# Altium footprint library Potentiometer_THT.PcbLib: 112 footprints (part 5 of 7)
Each footprint in its own frame and in the unit in brackets; x right, y up, seen from the top. Pads: shape width x height; smd on the part's side, far side on the other; paste and mask are expansions set on the pad; w line width, h text height; cw(c..) or ccw(c..) is an arc to the next point about the centre after c.
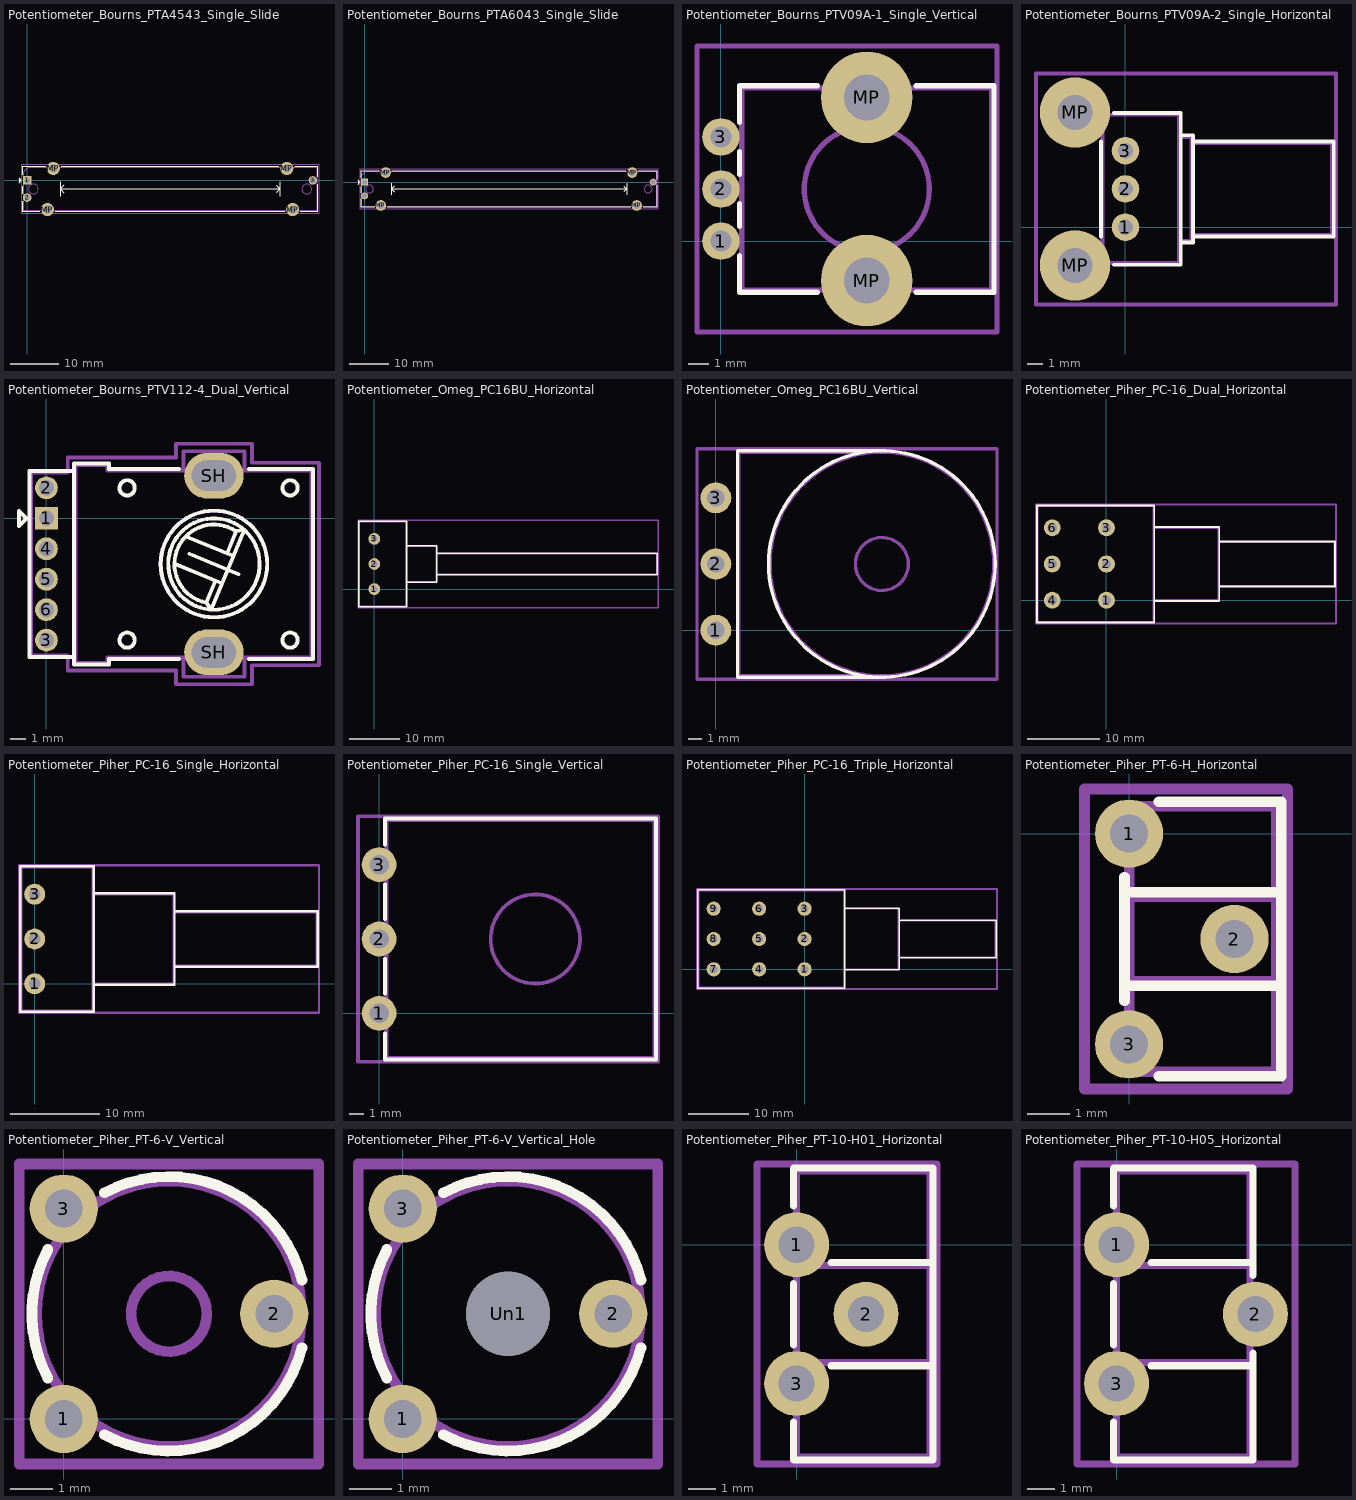
[diagram p4: the footprints below, top view; thin cyan lines are the x and y axes]

## Potentiometer_Bourns_PTA4543_Single_Slide [mm]
pads (7):
  rect 1.75x1.75 hole 1.2: 1(0,0)
  round 1.75 hole 1.2: 2(0,-3.5) 3(58.5,0)
  round 2.7 hole 1.7: MP(4.15,-5.95) MP(5.35,2.45) MP(53.15,2.45) MP(54.35,-5.95)
F.SilkS:
  lines w0.254: -0.87,-4.29 -0.87,-6.37 2.554,-6.37 ; -0.87,-2.71 -0.87,-1.175 ; -0.87,1.175 -0.87,2.87 3.754,2.87 ; 5.746,-6.37 52.754,-6.37 ; 6.75,-3.25 6.75,-0.25 ; 6.946,2.87 51.554,2.87 ; 7.5,-2.5 6.75,-1.75 ; 7.5,-1 6.75,-1.75 ; 51,-2.5 51.75,-1.75 ; 51,-1 51.75,-1.75 ; 51.75,-3.25 51.75,-0.25 ; 54.746,2.87 59.37,2.87 59.37,0.79 ; 55.946,-6.37 59.37,-6.37 59.37,-0.79 ; 6.75,-1.75 51.75,-1.75 ; -1.675,-0.5 -1.675,0.5 -1.175,0 -1.675,-0.5
F.Fab:
  circle w0.254: c1.25,-1.75 r1
  circle w0.254: c57.25,-1.75 r1
  lines w0.254: -0.75,-6.25 -0.75,1.75 0.25,2.75 59.25,2.75 59.25,-6.25 -0.75,-6.25
  text "'.Designator'" at 25.203,-2.59 h1
F.CrtYd:
  lines w0.254: -1.25,-6.75 -1.25,3.25 59.75,3.25 59.75,-6.75 -1.25,-6.75

## Potentiometer_Bourns_PTA6043_Single_Slide [mm]
pads (7):
  rect 1.75x1.75 hole 1.2: 1(0,0)
  round 1.75 hole 1.2: 2(0,-3.5) 3(73.5,0)
  round 2.7 hole 1.7: MP(4.15,-5.95) MP(5.35,2.45) MP(68.15,2.45) MP(69.35,-5.95)
F.SilkS:
  lines w0.254: -0.87,-4.29 -0.87,-6.37 2.554,-6.37 ; -0.87,-2.71 -0.87,-1.175 ; -0.87,1.175 -0.87,2.87 3.754,2.87 ; 5.746,-6.37 67.754,-6.37 ; 6.75,-3.25 6.75,-0.25 ; 6.946,2.87 66.554,2.87 ; 7.5,-2.5 6.75,-1.75 ; 7.5,-1 6.75,-1.75 ; 66,-2.5 66.75,-1.75 ; 66,-1 66.75,-1.75 ; 66.75,-3.25 66.75,-0.25 ; 69.746,2.87 74.37,2.87 74.37,0.79 ; 70.946,-6.37 74.37,-6.37 74.37,-0.79 ; 6.75,-1.75 66.75,-1.75 ; -1.675,-0.5 -1.675,0.5 -1.175,0 -1.675,-0.5
F.Fab:
  circle w0.254: c1.25,-1.75 r1
  circle w0.254: c72.25,-1.75 r1
  lines w0.254: -0.75,-6.25 -0.75,1.75 0.25,2.75 74.25,2.75 74.25,-6.25 -0.75,-6.25
  text "'.Designator'" at 32.703,-2.59 h1
F.CrtYd:
  lines w0.254: -1.25,-6.75 -1.25,3.25 74.75,3.25 74.75,-6.75 -1.25,-6.75

## Potentiometer_Bourns_PTV09A-1_Single_Vertical [mm]
pads (5):
  round 1.8 hole 1: 1(0,0) 2(0,2.5) 3(0,5)
  round 4.4 hole 2.2: MP(7,-1.9) MP(7,6.9)
F.SilkS:
  lines w0.254: 0.89,-0.696 0.89,-2.46 4.635,-2.46 ; 0.89,0.696 0.89,1.804 ; 0.89,3.196 0.89,4.304 ; 0.89,5.696 0.89,7.46 4.635,7.46 ; 9.365,-2.46 13.11,-2.46 13.11,7.46 9.365,7.46
F.Fab:
  circle w0.254: c7,2.5 r3
  lines w0.254: 1,-2.35 1,7.35 13,7.35 13,-2.35 1,-2.35
  text "'.Designator'" at 2.84,-1.547 h1
F.CrtYd:
  lines w0.254: -1.15,-4.36 -1.15,9.36 13.25,9.36 13.25,-4.36 -1.15,-4.36

## Potentiometer_Bourns_PTV09A-2_Single_Horizontal [mm]
pads (5):
  round 1.8 hole 1: 1(0,0) 2(0,2.5) 3(0,5)
  round 4.6 hole 2.3: MP(-3.3,-2.5) MP(-3.3,7.5)
F.SilkS:
  lines w0.254: -1.61,-0.617 -1.61,5.617 ; -0.77,-2.46 3.61,-2.46 3.61,7.46 -0.77,7.46 ; 3.61,-1.01 3.61,6.01 4.41,6.01 4.41,-1.01 3.61,-1.01 ; 4.41,-0.61 4.41,5.61 13.61,5.61 13.61,-0.61 4.41,-0.61
F.Fab:
  lines w0.254: -1.5,-2.35 -1.5,7.35 3.5,7.35 3.5,-2.35 -1.5,-2.35 ; 3.5,-0.9 3.5,5.9 4.3,5.9 4.3,-0.9 3.5,-0.9 ; 4.3,-0.5 4.3,5.5 13.5,5.5 13.5,-0.5 4.3,-0.5
  text "'.Designator'" at -3.047,1.66 h1
F.CrtYd:
  lines w0.254: -5.85,-5.06 -5.85,10.05 13.76,10.05 13.76,-5.06 -5.85,-5.06

## Potentiometer_Bourns_PTV112-4_Dual_Vertical [mm]
pads (8):
  rect 1.5x1.5 hole 1: 1(0,0)
  round 1.5 hole 1: 2(0,2) 3(0,-8) 4(0,-2) 5(0,-4) 6(0,-6)
  rrect100% 3.9x3 hole 2.9 slot 2 at 90 deg: SH(11,-8.8) SH(11,2.8)
F.SilkS:
  circle w0.254: c5.3,2 r0.5
  circle w0.254: c5.3,-8 r0.5
  circle w0.254: c11,-3 r3
  circle w0.254: c11,-3 r3.5
  circle w0.254: c16,2 r0.5
  circle w0.254: c16,-8 r0.5
  lines w0.254: -1.1,3.09 -1.1,-9.1 1.8,-9.1 ; -1.1,3.1 1.8,3.1 ; 8.46,-3 11.52,-4.27 ; 8.7,-9.25 4.1,-9.25 4.1,-9.6 1.8,-9.6 1.8,3.6 4.1,3.6 4.1,3.25 8.7,3.25 ; 9.204,-1.204 12.26,-2.47 ; 9.378,-2.328 12.622,-3.672 ; 10.506,-5.529 11.087,-4.129 ; 11.864,-2.289 12.459,-0.829 ; 13.3,-9.25 17.5,-9.25 17.5,3.25 13.3,3.25 ; -1.8,-0.5 -1.8,0.5 -1.3,0 -1.8,-0.5 ; 10.492,-5.54 10.82,-5.98 12.98,-0.76 12.407,-0.825 ccw(c11,-3) 10.492,-5.54
F.Fab:
  circle w0.254: c11,-3 r3.5
  lines w0.254: 1.9,-9.5 1.9,3.5 4,3.5 4,3.15 9,3.15 9,4.4 13,4.4 13,3.15 17.4,3.15 17.4,-9.15 13,-9.15 13,-10.4 9,-10.4 9,-9.15 4,-9.15 4,-9.5 1.9,-9.5
  text "'.Designator'" at 5.233,-3.71 h1
F.CrtYd:
  lines w0.254: -1,-9 -1,3 1.4,3 1.4,4 8.5,4 8.5,4.9 13.5,4.9 13.5,3.65 17.9,3.65 17.9,-9.65 13.5,-9.65 13.5,-10.9 8.5,-10.9 8.5,-10 1.4,-10 1.4,-9 -1,-9

## Potentiometer_Omeg_PC16BU_Horizontal [mm]
pads (3):
  round 2.34 hole 1.3: 1(0,0) 2(0,5) 3(0,10)
F.SilkS:
  lines w0.254: -3.11,-3.56 -3.11,13.56 6.41,13.56 6.41,-3.56 -3.11,-3.56 ; 6.41,1.39 6.41,8.61 12.41,8.61 12.41,1.39 6.41,1.39 ; 12.41,2.89 12.41,7.11 56.41,7.11 56.41,2.89 12.41,2.89
F.Fab:
  lines w0.254: -3,-3.45 -3,13.45 6.3,13.45 6.3,-3.45 -3,-3.45 ; 6.3,1.5 6.3,8.5 12.3,8.5 12.3,1.5 6.3,1.5 ; 12.3,3 12.3,7 56.3,7 56.3,3 12.3,3
  text "'.Designator'" at -2.397,4.16 h1
F.CrtYd:
  lines w0.254: -3.26,-3.7 -3.26,13.7 56.55,13.7 56.55,-3.7 -3.26,-3.7

## Potentiometer_Omeg_PC16BU_Vertical [mm]
pads (3):
  round 2.34 hole 1.3: 1(0,0) 2(0,5) 3(0,10)
F.SilkS:
  circle w0.254: c12.55,5 r8.56
  lines w0.254: 12.55,-3.56 1.64,-3.56 1.64,13.56 12.55,13.56
F.Fab:
  circle w0.254: c12.55,5 r2
  circle w0.254: c12.55,5 r8.45
  lines w0.254: 12.55,-3.45 1.75,-3.45 1.75,13.45 12.55,13.45
  text "'.Designator'" at 3.59,0.953 h1
F.CrtYd:
  lines w0.254: -1.42,-3.7 -1.42,13.7 21.25,13.7 21.25,-3.7 -1.42,-3.7

## Potentiometer_Piher_PC-16_Dual_Horizontal [mm]
pads (6):
  round 2.34 hole 1.3: 1(0,0) 2(0,5) 3(0,10) 4(-7.5,0) 5(-7.5,5) 6(-7.5,10)
F.SilkS:
  lines w0.254: -9.61,-3.11 -9.61,13.11 6.61,13.11 6.61,-3.11 -9.61,-3.11 ; 6.61,-0.11 6.61,10.11 15.61,10.11 15.61,-0.11 6.61,-0.11 ; 15.61,1.89 15.61,8.11 31.61,8.11 31.61,1.89 15.61,1.89
F.Fab:
  lines w0.254: -9.5,-3 -9.5,13 6.5,13 6.5,-3 -9.5,-3 ; 6.5,0 6.5,10 15.5,10 15.5,0 6.5,0 ; 15.5,2 15.5,8 31.5,8 31.5,2 15.5,2
  text "'.Designator'" at -5.547,4.16 h1
F.CrtYd:
  lines w0.254: -9.75,-3.25 -9.75,13.25 31.75,13.25 31.75,-3.25 -9.75,-3.25

## Potentiometer_Piher_PC-16_Single_Horizontal [mm]
pads (3):
  round 2.34 hole 1.3: 1(0,0) 2(0,5) 3(0,10)
F.SilkS:
  lines w0.254: -1.61,-3.11 -1.61,13.11 6.61,13.11 6.61,-3.11 -1.61,-3.11 ; 6.61,-0.11 6.61,10.11 15.61,10.11 15.61,-0.11 6.61,-0.11 ; 15.61,1.89 15.61,8.11 31.61,8.11 31.61,1.89 15.61,1.89
F.Fab:
  lines w0.254: -1.5,-3 -1.5,13 6.5,13 6.5,-3 -1.5,-3 ; 6.5,0 6.5,10 15.5,10 15.5,0 6.5,0 ; 15.5,2 15.5,8 31.5,8 31.5,2 15.5,2
  text "'.Designator'" at -1.547,4.16 h1
F.CrtYd:
  lines w0.254: -1.75,-3.25 -1.75,13.25 31.75,13.25 31.75,-3.25 -1.75,-3.25

## Potentiometer_Piher_PC-16_Single_Vertical [mm]
pads (3):
  round 2.34 hole 1.3: 1(0,0) 2(0,5) 3(0,10)
F.SilkS:
  lines w0.254: 0.39,-1.345 0.39,-3.11 18.61,-3.11 18.61,13.11 0.39,13.11 0.39,11.345 ; 0.39,1.345 0.39,3.655 ; 0.39,6.345 0.39,8.655
F.Fab:
  circle w0.254: c10.5,5 r3
  lines w0.254: 0.5,-3 0.5,13 18.5,13 18.5,-3 0.5,-3
  text "'.Designator'" at 2.34,0.953 h1
F.CrtYd:
  lines w0.254: -1.42,-3.25 -1.42,13.25 18.75,13.25 18.75,-3.25 -1.42,-3.25

## Potentiometer_Piher_PC-16_Triple_Horizontal [mm]
pads (9):
  round 2.34 hole 1.3: 1(0,0) 2(0,5) 3(0,10) 4(-7.5,0) 5(-7.5,5) 6(-7.5,10) 7(-15,0) 8(-15,5) 9(-15,10)
F.SilkS:
  lines w0.254: -17.61,-3.11 -17.61,13.11 6.61,13.11 6.61,-3.11 -17.61,-3.11 ; 6.61,-0.11 6.61,10.11 15.61,10.11 15.61,-0.11 6.61,-0.11 ; 15.61,1.89 15.61,8.11 31.61,8.11 31.61,1.89 15.61,1.89
F.Fab:
  lines w0.254: -17.5,-3 -17.5,13 6.5,13 6.5,-3 -17.5,-3 ; 6.5,0 6.5,10 15.5,10 15.5,0 6.5,0 ; 15.5,2 15.5,8 31.5,8 31.5,2 15.5,2
  text "'.Designator'" at -9.547,4.16 h1
F.CrtYd:
  lines w0.254: -17.75,-3.25 -17.75,13.25 31.75,13.25 31.75,-3.25 -17.75,-3.25

## Potentiometer_Piher_PT-6-H_Horizontal [mm]
pads (3):
  round 1.62 hole 0.9: 1(0,0) 2(2.5,-2.5) 3(0,-5)
F.SilkS:
  lines w0.254: -0.11,-3.966 -0.11,-1.034 ; 0.71,-5.76 3.61,-5.76 3.61,0.76 0.71,0.76 ; -0.11,-3.61 -0.11,-1.39 3.61,-1.39 3.61,-3.61 -0.11,-3.61
F.Fab:
  lines w0.254: 0,-5.65 0,0.65 3.5,0.65 3.5,-5.65 0,-5.65 ; 0,-3.5 0,-1.5 3.5,-1.5 3.5,-3.5 0,-3.5
  text "'.Designator'" at -1.409,-3.158 h0.78
F.CrtYd:
  lines w0.254: -1.06,-6.06 -1.06,1.06 3.76,1.06 3.76,-6.06 -1.06,-6.06

## Potentiometer_Piher_PT-6-V_Vertical [mm]
pads (3):
  round 1.62 hole 0.9: 1(0,0) 2(5,2.5) 3(0,5)
F.SilkS:
  lines w0.254: -0.378,0.969 cw(c2.499,2.5) -0.378,4.031 ; 0.969,-0.378 ccw(c2.5,2.499) 5.659,1.696 ; 0.969,5.378 cw(c2.5,2.501) 5.659,3.304
F.Fab:
  circle w0.254: c2.5,2.5 r0.9
  circle w0.254: c2.5,2.5 r3.15
  text "'.Designator'" at 1.39,-1.547 h1
F.CrtYd:
  lines w0.254: -1.06,-1.07 -1.06,6.06 6.06,6.06 6.06,-1.07 -1.06,-1.07

## Potentiometer_Piher_PT-6-V_Vertical_Hole [mm]
pads (4):
  round 1.62 hole 0.9: 1(0,0) 2(5,2.5) 3(0,5)
  round 2 hole 2: Un1(2.5,2.5)
F.SilkS:
  lines w0.254: -0.378,0.969 cw(c2.499,2.5) -0.378,4.031 ; 0.969,-0.378 ccw(c2.5,2.499) 5.659,1.696 ; 0.969,5.378 cw(c2.5,2.501) 5.659,3.304
F.Fab:
  circle w0.254: c2.5,2.5 r3.15
  text "'.Designator'" at 1.39,-1.547 h1
F.CrtYd:
  lines w0.254: -1.06,-1.07 -1.06,6.06 6.06,6.06 6.06,-1.07 -1.06,-1.07

## Potentiometer_Piher_PT-10-H01_Horizontal [mm]
pads (3):
  round 2.34 hole 1.3: 1(0,0) 2(2.5,-2.5) 3(0,-5)
F.SilkS:
  lines w0.254: -0.11,-6.396 -0.11,-7.76 4.91,-7.76 4.91,2.76 -0.11,2.76 -0.11,1.396 ; 1.245,-4.36 4.91,-4.36 4.91,-0.64 1.245,-0.64 ; -0.11,-3.604 -0.11,-1.396 -0.11,-3.604
F.Fab:
  lines w0.254: 0,-7.65 0,2.65 4.8,2.65 4.8,-7.65 0,-7.65 ; 0,-4.25 0,-0.75 4.8,-0.75 4.8,-4.25 0,-4.25
  text "'.Designator'" at -1.647,-3.34 h1
F.CrtYd:
  lines w0.254: -1.42,-7.9 -1.42,2.91 5.05,2.91 5.05,-7.9 -1.42,-7.9

## Potentiometer_Piher_PT-10-H05_Horizontal [mm]
pads (3):
  round 2.34 hole 1.3: 1(0,0) 2(5,-2.5) 3(0,-5)
F.SilkS:
  lines w0.254: -0.11,-6.396 -0.11,-7.76 4.91,-7.76 4.91,-3.897 4.91,-4.36 1.245,-4.36 ; -0.11,1.396 -0.11,2.76 4.91,2.76 4.91,-1.103 4.91,-0.64 1.245,-0.64 ; -0.11,-3.604 -0.11,-1.396 -0.11,-3.604
F.Fab:
  lines w0.254: 0,-7.65 0,2.65 4.8,2.65 4.8,-7.65 0,-7.65 ; 0,-4.25 0,-0.75 4.8,-0.75 4.8,-4.25 0,-4.25
  text "'.Designator'" at -1.647,-3.34 h1
F.CrtYd:
  lines w0.254: -1.42,-7.9 -1.42,2.91 6.42,2.91 6.42,-7.9 -1.42,-7.9